# Altium footprint library UnitLibrary.PcbLib: 1 footprints
Each footprint in its own frame and in the unit in brackets; x right, y up, seen from the top. Pads: shape width x height; smd on the part's side, far side on the other; paste and mask are expansions set on the pad; w line width, h text height; cw(c..) or ccw(c..) is an arc to the next point about the centre after c.
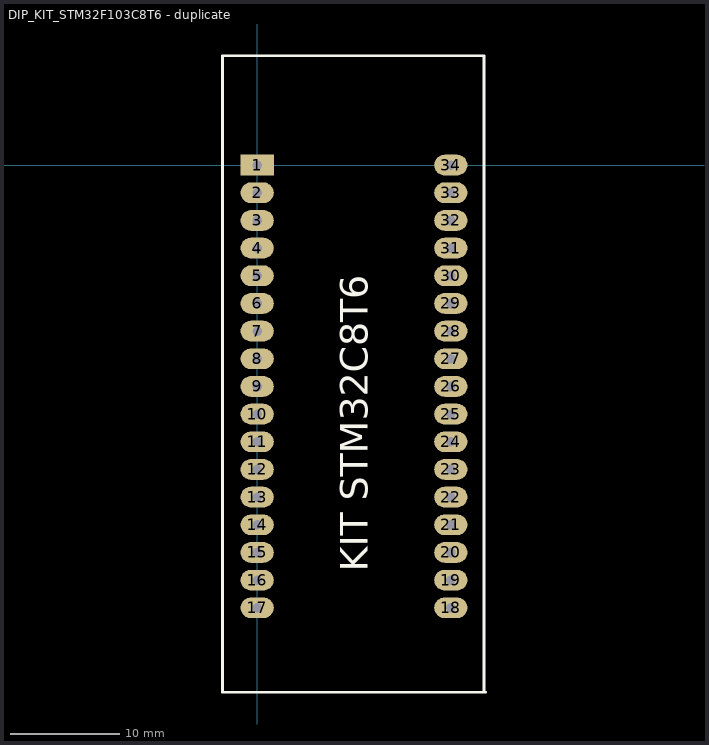
[diagram p0: the footprint, top view; thin cyan lines are the x and y axes]

## DIP_KIT_STM32F103C8T6 - duplicate [mil]
pads (34):
  rect 120x75 hole 35: 1(0,0)
  oval 120x75 hole 35: 2(0,-100) 3(0,-200) 4(0,-300) 5(0,-400) 6(0,-500) 7(0,-600) 8(0,-700) 9(0,-800) 10(0,-900) 11(0,-1000) 12(0,-1100) 13(0,-1200) 14(0,-1300) 15(0,-1400) 16(0,-1500) 17(0,-1600) 18(700,-1600) 19(700,-1500) 20(700,-1400) 21(700,-1300) 22(700,-1200) 23(700,-1100) 24(700,-1000) 25(700,-900) 26(700,-800) 27(700,-700) 28(700,-600) 29(700,-500) 30(700,-400) 31(700,-300) 32(700,-200) 33(700,-100) 34(700,0)
Top Overlay:
  lines w10: 820,-1905 820,395 -125,395 -125,-1905 825,-1905
  text "KIT STM32C8T6" at 400,-1470 h100